# Altium footprint library Back.PcbLib: 17 footprints (part 1 of 2)
Each footprint in its own frame and in the unit in brackets; x right, y up, seen from the top. Pads: shape width x height; smd on the part's side, far side on the other; paste and mask are expansions set on the pad; w line width, h text height; cw(c..) or ccw(c..) is an arc to the next point about the centre after c.
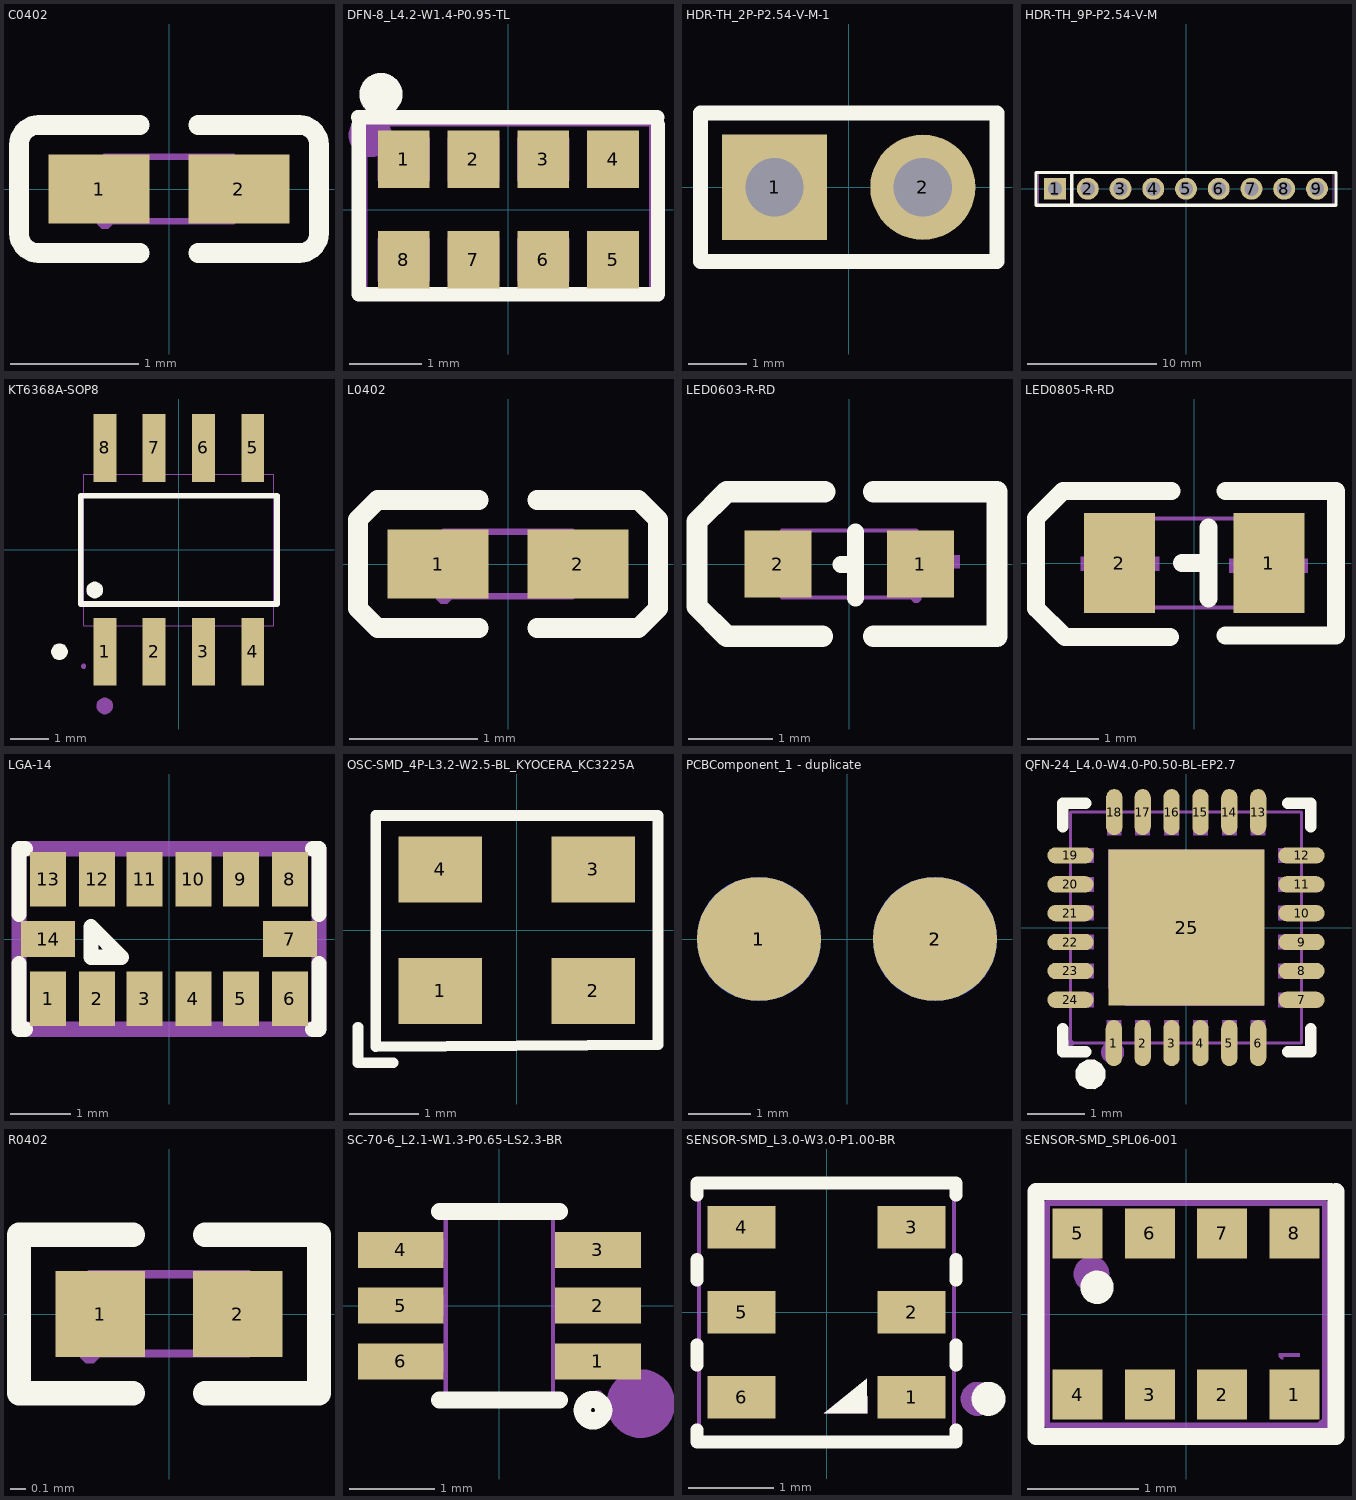
[diagram p0: the footprints below, top view; thin cyan lines are the x and y axes]

## C0402 [mm]
pads (2):
  rect 0.79x0.54 smd paste-100 mask+0.051: 1(-0.545,0) 2(0.545,0)
Top Overlay:
  lines w0.152: -0.226,-0.499 -1.016,-0.499 cw(c-1.016,-0.346) -1.169,-0.346 -1.169,0.346 cw(c-1.016,0.346) -1.016,0.499 -0.226,0.499 ; 0.226,-0.499 1.016,-0.499 ccw(c1.016,-0.346) 1.169,-0.346 1.169,0.346 ccw(c1.016,0.346) 1.016,0.499 0.226,0.499
Top Paste:
  region: -0.18,0.225 -0.18,-0.225 -0.25,-0.275 -0.73,-0.275 -0.78,-0.225 -0.78,0.225 -0.73,0.275 -0.25,0.275
  region: 0.78,0.225 0.78,-0.225 0.73,-0.275 0.25,-0.275 0.18,-0.225 0.18,0.225 0.25,0.275 0.73,0.275
Mechanical 15:
  region: -0.5,-0.31 -0.475,-0.31 -0.44,-0.275 -0.44,-0.225 -0.475,-0.19 -0.5,-0.19 -0.525,-0.19 -0.56,-0.225 -0.56,-0.275 -0.525,-0.31 -0.5,-0.31
  region: -0.5,-0.25 -0.5,0.25 -0.25,0.25 -0.25,-0.25
  region: 0.5,-0.25 0.5,0.25 0.25,0.25 0.25,-0.25
  lines w0.051: -0.5,-0.25 -0.5,0.25 0.5,0.25 0.5,-0.25 -0.5,-0.25

## DFN-8_L4.2-W1.4-P0.95-TL [mm]
pads (8):
  rect 0.72x0.8 smd paste+0 mask+0.051: 1(-1.455,0.7) 2(-0.485,0.7) 3(0.485,0.7) 4(1.455,0.7) 5(1.455,-0.7) 6(0.485,-0.7) 7(-0.485,-0.7) 8(-1.455,-0.7)
Top Overlay:
  lines w0.2: -2.09,1.28 2.07,1.28 ; -2.08,1.18 -2.08,-1.18 2.08,-1.18 2.08,1.18
  lines w0.3: -1.773,1.45 cw(c-1.771,1.6) -1.77,1.45
Mechanical 6:
  circle w0.3: c-1.92,1.03 r0.15
Mechanical 15:
  region: -1.815,1 -1.095,1 -1.095,0.4 -1.815,0.4
  region: -1.815,-0.4 -1.095,-0.4 -1.095,-1 -1.815,-1
  region: -0.845,-0.4 -0.125,-0.4 -0.125,-1 -0.845,-1
  region: 0.125,-0.4 0.845,-0.4 0.845,-1 0.125,-1
  region: -0.845,1 -0.125,1 -0.125,0.4 -0.845,0.4
  region: 0.125,1 0.845,1 0.845,0.4 0.125,0.4
  region: 1.095,1 1.815,1 1.815,0.4 1.095,0.4
  region: 1.095,-0.4 1.815,-0.4 1.815,-1 1.095,-1
  region: -1.92,1.18 -1.92,1.205 -1.955,1.24 -2.005,1.24 -2.04,1.205 -2.04,1.18 -2.04,1.155 -2.005,1.12 -1.955,1.12 -1.92,1.155 -1.92,1.18
  lines w0.051: -1.98,-1.18 -1.98,1.18 1.98,1.18 1.98,-1.18 -1.98,-1.18

## HDR-TH_2P-P2.54-V-M-1 [mm]
pads (2):
  rect 1.8x1.8 hole 1 paste+0 mask+0.051: 1(-1.27,0)
  round 1.8 hole 1 paste+0 mask+0.051: 2(1.27,0)
Top Overlay:
  lines w0.254: -2.54,-1.27 -2.54,1.27 2.54,1.27 2.54,-1.27 -2.54,-1.27
Mechanical 15:
  region: 0.95,0.32 1.59,0.32 1.59,-0.32 0.95,-0.32
  region: -1.59,0.32 -0.95,0.32 -0.95,-0.32 -1.59,-0.32
  region: -2.54,-1.33 -2.516,-1.329 -2.483,-1.294 -2.483,-1.246 -2.516,-1.211 -2.54,-1.21 -2.564,-1.211 -2.597,-1.246 -2.597,-1.294 -2.564,-1.329 -2.54,-1.33
  lines w0.051: -2.54,-1.27 2.54,-1.27 2.54,1.27 -2.54,1.27 -2.54,-1.27

## HDR-TH_9P-P2.54-V-M [mm]
pads (9):
  rect 1.7x1.7 hole 1.1 paste+0 mask+0.051: 1(-10.16,0)
  round 1.7 hole 1.1 paste+0 mask+0.051: 2(-7.62,0) 3(-5.08,0) 4(-2.54,0) 5(0,0) 6(2.54,0) 7(5.08,0) 8(7.62,0) 9(10.16,0)
Top Overlay:
  lines w0.254: -8.866,-1.27 -8.866,1.27 ; -11.64,-1.27 -11.64,1.27 11.64,1.27 11.64,-1.27 -11.64,-1.27
Mechanical 15:
  region: -10.48,0.32 -9.84,0.32 -9.84,-0.32 -10.48,-0.32
  region: -7.94,0.32 -7.3,0.32 -7.3,-0.32 -7.94,-0.32
  region: -5.4,0.32 -4.76,0.32 -4.76,-0.32 -5.4,-0.32
  region: -2.86,0.32 -2.22,0.32 -2.22,-0.32 -2.86,-0.32
  region: -0.32,0.32 0.32,0.32 0.32,-0.32 -0.32,-0.32
  region: 2.22,0.32 2.86,0.32 2.86,-0.32 2.22,-0.32
  region: 4.76,0.32 5.4,0.32 5.4,-0.32 4.76,-0.32
  region: 7.3,0.32 7.94,0.32 7.94,-0.32 7.3,-0.32
  region: 9.84,0.32 10.48,0.32 10.48,-0.32 9.84,-0.32
  region: -11.37,-1.25 -11.371,-1.226 -11.406,-1.193 -11.454,-1.193 -11.489,-1.226 -11.49,-1.25 -11.489,-1.274 -11.454,-1.307 -11.406,-1.307 -11.371,-1.274 -11.37,-1.25
  lines w0.051: -11.43,-1.25 11.43,-1.25 11.43,1.25 -11.43,1.25 -11.43,-1.25

## KT6368A-SOP8 [mm]
pads (8):
  rect 0.589x1.75 smd: 1(-1.905,-2.625) 2(-0.635,-2.625) 3(0.635,-2.625) 4(1.905,-2.625) 5(1.905,2.625) 6(0.635,2.625) 7(-0.635,2.625) 8(-1.905,2.625)
Top Overlay:
  region: -3.076,-2.417 -3.117,-2.417 -3.194,-2.448 -3.252,-2.507 -3.284,-2.584 -3.284,-2.667 -3.253,-2.743 -3.194,-2.802 -3.117,-2.834 -3.076,-2.834 -3.034,-2.834 -2.958,-2.802 -2.899,-2.743 -2.867,-2.667 -2.867,-2.584 -2.899,-2.507 -2.957,-2.448 -3.034,-2.417 -3.076,-2.417
  region: -2.165,-0.825 -2.206,-0.825 -2.282,-0.857 -2.34,-0.916 -2.371,-0.992 -2.371,-1.075 -2.34,-1.151 -2.282,-1.209 -2.206,-1.242 -2.165,-1.242 -2.124,-1.242 -2.048,-1.209 -1.99,-1.151 -1.959,-1.075 -1.959,-0.992 -1.99,-0.916 -2.048,-0.858 -2.124,-0.825 -2.165,-0.825
  lines w0.152: -2.526,-1.394 2.526,-1.394 2.526,1.394 -2.526,1.394 -2.526,-1.394
Mechanical 6:
  region: -1.905,-3.812 -1.946,-3.812 -2.023,-3.844 -2.082,-3.903 -2.114,-3.979 -2.114,-4.062 -2.082,-4.139 -2.023,-4.198 -1.946,-4.229 -1.905,-4.229 -1.864,-4.229 -1.787,-4.198 -1.728,-4.139 -1.696,-4.062 -1.696,-3.979 -1.728,-3.903 -1.787,-3.844 -1.864,-3.812 -1.905,-3.812
Mechanical 15:
  region: -1.695,2.175 -1.695,1.94 -2.115,1.94 -2.115,2.175
  region: -1.695,3 -1.695,2.165 -2.115,2.165 -2.115,3
  region: -0.425,2.175 -0.425,1.94 -0.845,1.94 -0.845,2.175
  region: -0.425,3 -0.425,2.165 -0.845,2.165 -0.845,3
  region: 0.845,2.175 0.845,1.94 0.425,1.94 0.425,2.175
  region: 0.845,3 0.845,2.165 0.425,2.165 0.425,3
  region: 2.115,2.175 2.115,1.94 1.695,1.94 1.695,2.175
  region: 2.115,3 2.115,2.165 1.695,2.165 1.695,3
  region: 2.115,-2.175 2.115,-1.94 1.695,-1.94 1.695,-2.175
  region: 2.115,-3 2.115,-2.165 1.695,-2.165 1.695,-3
  region: 0.845,-2.175 0.845,-1.94 0.425,-1.94 0.425,-2.175
  region: 0.845,-3 0.845,-2.165 0.425,-2.165 0.425,-3
  region: -0.425,-2.175 -0.425,-1.94 -0.845,-1.94 -0.845,-2.175
  region: -0.425,-3 -0.425,-2.165 -0.845,-2.165 -0.845,-3
  region: -1.695,-2.175 -1.695,-1.94 -2.115,-1.94 -2.115,-2.175
  region: -1.695,-3 -1.695,-2.165 -2.115,-2.165 -2.115,-3
  region: -2.45,-2.94 -2.474,-2.94 -2.508,-2.975 -2.508,-3.024 -2.474,-3.059 -2.45,-3.06 -2.426,-3.059 -2.392,-3.024 -2.392,-2.975 -2.426,-2.94 -2.45,-2.94
  lines w0.025: -2.45,-1.95 2.45,-1.95 2.45,1.95 -2.45,1.95 -2.45,-1.95

## L0402 [mm]
pads (2):
  rect 0.79x0.54 smd paste-100 mask+0.051: 1(-0.545,0) 2(0.545,0)
Top Overlay:
  lines w0.152: -0.226,-0.499 -1.016,-0.499 -1.169,-0.346 -1.169,0.346 -1.016,0.499 -0.226,0.499 ; 0.226,-0.499 1.016,-0.499 1.169,-0.346 1.169,0.346 1.016,0.499 0.226,0.499
Top Paste:
  region: -0.135,-0.086 -0.135,0.086 -0.404,0.27 -0.9,0.27 -0.94,0.23 -0.94,-0.23 -0.9,-0.27 -0.404,-0.27
  region: 0.135,-0.086 0.135,0.086 0.404,0.27 0.9,0.27 0.94,0.23 0.94,-0.23 0.9,-0.27 0.404,-0.27
Mechanical 15:
  region: 0.5,-0.25 0.5,0.25 0.25,0.25 0.25,-0.25
  region: -0.5,-0.25 -0.5,0.25 -0.25,0.25 -0.25,-0.25
  region: -0.5,-0.31 -0.475,-0.31 -0.44,-0.275 -0.44,-0.225 -0.475,-0.19 -0.5,-0.19 -0.525,-0.19 -0.56,-0.225 -0.56,-0.275 -0.525,-0.31 -0.5,-0.31
  lines w0.051: -0.5,-0.25 0.5,-0.25 0.5,0.25 -0.5,0.25 -0.5,-0.25

## LED0603-R-RD [mm]
pads (2):
  rect 0.8x0.8 smd paste+0 mask+0.051: 1(0.851,0) 2(-0.851,0)
Top Overlay:
  lines w0.203: -0.099,-0.008 0.076,-0.008 ; 0.076,-0.406 0.076,0.381
  lines w0.254: -0.318,-0.864 -1.46,-0.864 -1.816,-0.508 -1.816,0.508 -1.46,0.864 -0.292,0.864 ; 0.292,-0.864 1.765,-0.864 1.765,0.864 0.292,0.864
Mechanical 6:
  region: -1.193,0.05 -0.533,0.05 -0.533,-0.103 -1.193,-0.103
  region: 0.936,-0.275 0.936,0.385 1.088,0.385 1.088,-0.275
  region: 0.66,0.102 1.321,0.102 1.321,-0.051 0.66,-0.051
Mechanical 15:
  region: -0.8,-0.4 -0.8,0.4 -0.5,0.4 -0.5,-0.4
  region: 0.8,0.4 0.8,-0.4 0.5,-0.4 0.5,0.4
  region: 0.8,-0.46 0.825,-0.46 0.86,-0.425 0.86,-0.375 0.825,-0.34 0.8,-0.34 0.775,-0.34 0.74,-0.375 0.74,-0.425 0.775,-0.46 0.8,-0.46
  lines w0.051: -0.8,-0.4 -0.8,0.4 0.8,0.4 0.8,-0.4 -0.8,-0.4

## LED0805-R-RD [mm]
pads (2):
  rect 1x1.4 smd paste+0 mask+0.051: 1(1.05,0) 2(-1.05,0)
Top Overlay:
  lines w0.254: -0.344,-1.043 -1.817,-1.043 -2.224,-0.636 -2.224,0.634 -1.843,1.015 -0.319,1.015 ; -0.169,0 0.1,0 ; 0.2,-0.5 0.2,0.5 ; 0.443,-1.017 1.993,-1.017 1.993,1.015 0.443,1.015
Mechanical 6:
  region: -0.494,-0.109 -1.594,-0.109 -1.594,0.091 -0.494,0.091
  region: 0.494,0.06 1.594,0.06 1.594,-0.14 0.494,-0.14
  region: 0.941,-0.556 0.941,0.544 1.141,0.544 1.141,-0.556
Mechanical 15:
  region: -0.6,-0.625 -1,-0.625 -1,0.625 -0.6,0.625
  region: 1,-0.625 0.6,-0.625 0.6,0.625 1,0.625
  region: 1,0.685 0.976,0.685 0.941,0.65 0.941,0.601 0.976,0.566 1,0.565 1.024,0.566 1.059,0.601 1.059,0.65 1.024,0.685 1,0.685
  lines w0.051: -1,-0.625 1,-0.625 1,0.625 -1,0.625 -1,-0.625

## LGA-14 [mil]
pads (14):
  rect 23.6x35.4 smd paste+0 mask+2: 1(-79,-39) 2(-47,-39) 3(-16,-39) 4(16,-39) 5(47,-39) 6(79,-39) 8(79,39) 9(47,39) 10(16,39) 11(-16,39) 12(-47,39) 13(-79,39)
  rect 35.4x23.6 smd paste+0 mask+2: 7(79,0) 14(-79,0)
Top Overlay:
  lines w10: -98,-16 -98,-59 -94,-59 ; -98,16 -98,59 -94,59 ; 94,-59 98,-59 98,-16 ; 94,59 98,59 98,16 ; -51,-12 -31,-12 -51,8 -51,-12
Mechanical 6:
  lines w10: -98,-59 98,-59 98,59 -98,59 -98,-59

## OSC-SMD_4P-L3.2-W2.5-BL_KYOCERA_KC3225A [mm]
pads (4):
  rect 1.2x0.95 smd paste+0 mask+0.051: 1(-1.1,-0.875) 2(1.1,-0.875) 3(1.1,0.875) 4(-1.1,0.875)
Top Overlay:
  lines w0.152: -2.286,-1.397 -2.286,-1.905 -1.778,-1.905 ; -2.029,-1.679 2.032,-1.651 2.032,0 2.032,1.651 -2.029,1.651 -2.029,-1.679

## PCBComponent_1 - duplicate [mm]
pads (4):
  round 2 smd far side: 1(-1.42,0) 2(1.42,0)
  round 2 smd: 1(-1.42,0) 2(1.42,0)

## QFN-24_L4.0-W4.0-P0.50-BL-EP2.7 [mm]
pads (25):
  oval 0.28x0.8 smd paste-100 mask+0.05: 1(-1.25,-2) 2(-0.75,-2) 3(-0.25,-2) 4(0.25,-2) 5(0.75,-2) 6(1.25,-2) 13(1.25,2) 14(0.75,2) 15(0.25,2) 16(-0.25,2) 17(-0.75,2) 18(-1.242,2)
  oval 0.8x0.28 smd paste-100 mask+0.05: 7(2,-1.25) 8(2,-0.75) 9(2,-0.25) 10(2,0.25) 11(2,0.75) 12(2,1.25) 19(-2,1.25) 20(-2,0.75) 21(-2,0.25) 22(-2,-0.25) 23(-2,-0.75) 24(-2,-1.25)
  rect 2.7x2.7 smd paste-100 mask+0.05: 25(0.012,0)
Top Overlay:
  region: -1.397,-2.539 -1.397,-2.471 -1.466,-2.353 -1.584,-2.286 -1.72,-2.286 -1.837,-2.354 -1.905,-2.472 -1.905,-2.608 -1.837,-2.726 -1.72,-2.794 -1.584,-2.794 -1.466,-2.727 -1.397,-2.609 -1.397,-2.541
  lines w0.2: -2.138,-1.75 -2.138,-2.15 -1.738,-2.15 ; -2.138,1.75 -2.138,2.15 -1.738,2.15 ; 1.763,-2.15 2.163,-2.15 2.163,-1.75 ; 1.763,2.15 2.163,2.15 2.163,1.75
Top Paste:
  drawing of 25 lines, arcs and shapes, not listed
Mechanical 6:
  circle w0.2: c-1.27,-2.159 r0.1
Mechanical 15:
  region: -1.375,-2 -1.375,-1.6 -1.125,-1.6 -1.125,-2
  region: -0.875,-2 -0.875,-1.6 -0.625,-1.6 -0.625,-2
  region: -0.375,-2 -0.375,-1.6 -0.125,-1.6 -0.125,-2
  region: 0.125,-2 0.125,-1.6 0.375,-1.6 0.375,-2
  region: 0.625,-2 0.625,-1.6 0.875,-1.6 0.875,-2
  region: 1.125,-2 1.125,-1.6 1.375,-1.6 1.375,-2
  region: 1.6,-1.375 1.6,-1.125 2,-1.125 2,-1.375
  region: 1.6,-0.875 1.6,-0.625 2,-0.625 2,-0.875
  region: 1.6,-0.375 1.6,-0.125 2,-0.125 2,-0.375
  region: 1.6,0.125 1.6,0.375 2,0.375 2,0.125
  region: 1.6,0.625 1.6,0.875 2,0.875 2,0.625
  region: 1.6,1.125 1.6,1.375 2,1.375 2,1.125
  region: 1.125,1.6 1.125,2 1.375,2 1.375,1.6
  region: 0.625,1.6 0.625,2 0.875,2 0.875,1.6
  region: 0.125,1.6 0.125,2 0.375,2 0.375,1.6
  region: -0.375,1.6 -0.375,2 -0.125,2 -0.125,1.6
  region: -0.875,1.6 -0.875,2 -0.625,2 -0.625,1.6
  region: -1.367,1.6 -1.367,2 -1.117,2 -1.117,1.6
  region: -2,1.125 -2,1.375 -1.6,1.375 -1.6,1.125
  region: -2,0.625 -2,0.875 -1.6,0.875 -1.6,0.625
  region: -2,0.125 -2,0.375 -1.6,0.375 -1.6,0.125
  region: -2,-0.375 -2,-0.125 -1.6,-0.125 -1.6,-0.375
  region: -2,-0.875 -2,-0.625 -1.6,-0.625 -1.6,-0.875
  region: -2,-1.375 -2,-1.125 -1.6,-1.125 -1.6,-1.375
  region: -1.35,-1.05 -1.35,1.35 1.35,1.35 1.35,-1.35 -1.05,-1.35
  region: -1.94,-2 -1.941,-1.976 -1.976,-1.942 -2.024,-1.942 -2.059,-1.976 -2.06,-2 -2.059,-2.024 -2.024,-2.058 -1.976,-2.058 -1.941,-2.024 -1.94,-2
  lines w0.051: -2,-2 2,-2 2,2 -2,2 -2,-2

## R0402 [mm]
pads (2):
  rect 0.566x0.54 smd paste-100 mask+0.051: 1(-0.433,0) 2(0.433,0)
Top Overlay:
  lines w0.152: -0.226,-0.499 -0.944,-0.499 -0.944,0.499 -0.226,0.499 ; 0.226,-0.499 0.944,-0.499 0.944,0.499 0.226,0.499
Top Paste:
  region: -0.135,-0.23 -0.135,0.23 -0.175,0.27 -0.676,0.27 -0.716,0.23 -0.716,-0.23 -0.676,-0.27 -0.175,-0.27
  region: 0.135,-0.23 0.135,0.23 0.175,0.27 0.676,0.27 0.716,0.23 0.716,-0.23 0.676,-0.27 0.175,-0.27
Mechanical 15:
  region: -0.249,0.25 -0.249,-0.25 -0.499,-0.25 -0.499,0.25
  region: 0.251,-0.25 0.251,0.25 0.501,0.25 0.501,-0.25
  region: -0.56,-0.25 -0.56,-0.275 -0.525,-0.31 -0.475,-0.31 -0.44,-0.275 -0.44,-0.25 -0.44,-0.225 -0.475,-0.19 -0.525,-0.19 -0.56,-0.225 -0.56,-0.25
  lines w0.051: -0.5,-0.25 0.5,-0.25 0.5,0.25 -0.5,0.25 -0.5,-0.25

## SC-70-6_L2.1-W1.3-P0.65-LS2.3-BR [mm]
pads (6):
  rect 1x0.42 smd paste+0 mask+0.05: 1(1.15,-0.65) 2(1.15,0) 3(1.15,0.65) 4(-1.15,0.65) 5(-1.15,0) 6(-1.15,-0.65)
Top Overlay:
  lines w0.2: -0.7,-1.1 0.7,-1.1 ; -0.7,1.1 0.7,1.1 ; 1.091,-1.094 ccw(c1.092,-1.219) 1.093,-1.094
Mechanical 6:
  circle w0.4: c1.651,-1.143 r0.2
Mechanical 15:
  region: 0.79,0.525 0.79,0.775 1.15,0.775 1.15,0.525
  region: 0.615,0.525 0.615,0.775 0.8,0.775 0.8,0.525
  region: 0.79,-0.125 0.79,0.125 1.15,0.125 1.15,-0.125
  region: 0.615,-0.125 0.615,0.125 0.8,0.125 0.8,-0.125
  region: 0.79,-0.775 0.79,-0.525 1.15,-0.525 1.15,-0.775
  region: 0.615,-0.775 0.615,-0.525 0.8,-0.525 0.8,-0.775
  region: -1.15,-0.775 -1.15,-0.525 -0.79,-0.525 -0.79,-0.775
  region: -0.8,-0.775 -0.8,-0.525 -0.615,-0.525 -0.615,-0.775
  region: -1.15,-0.125 -1.15,0.125 -0.79,0.125 -0.79,-0.125
  region: -0.8,-0.125 -0.8,0.125 -0.615,0.125 -0.615,-0.125
  region: -1.15,0.525 -1.15,0.775 -0.79,0.775 -0.79,0.525
  region: -0.8,0.525 -0.8,0.775 -0.615,0.775 -0.615,0.525
  region: 1.21,-1.05 1.21,-1.025 1.175,-0.99 1.125,-0.99 1.09,-1.025 1.09,-1.05 1.09,-1.075 1.125,-1.11 1.175,-1.11 1.21,-1.075 1.21,-1.05
  lines w0.051: -0.625,-1.05 0.625,-1.05 0.625,1.05 -0.625,1.05 -0.625,-1.05

## SENSOR-SMD_L3.0-W3.0-P1.00-BR [mm]
pads (6):
  rect 0.8x0.5 smd paste+0 mask+0.05: 1(1,-1) 2(1,0) 3(1,1) 4(-1,1) 5(-1,0) 6(-1,-1)
Top Overlay:
  circle w0.2: c1.905,-1.016 r0.1
  region: -0.028,-1.186 0.481,-1.187 0.476,-0.78
  lines w0.15: -1.524,-1.378 -1.524,-1.524 1.524,-1.524 1.524,-1.378 ; -1.524,-0.622 -1.524,-0.378 ; -1.524,0.378 -1.524,0.622 ; -1.524,1.378 -1.524,1.524 1.524,1.524 1.524,1.378 ; 1.524,-0.622 1.524,-0.378 ; 1.524,0.378 1.524,0.622
Mechanical 6:
  circle w0.2: c1.778,-1.016 r0.1
  region: -0.032,-1.186 0.477,-1.187 0.472,-0.781
Mechanical 15:
  region: 1.275,0.8 0.725,0.8 0.725,1.2 1.275,1.2
  region: 1.275,-0.2 0.725,-0.2 0.725,0.2 1.275,0.2
  region: 1.275,-1.2 0.725,-1.2 0.725,-0.8 1.275,-0.8
  region: -0.725,-1.2 -1.275,-1.2 -1.275,-0.8 -0.725,-0.8
  region: -0.725,-0.2 -1.275,-0.2 -1.275,0.2 -0.725,0.2
  region: -0.725,0.8 -1.275,0.8 -1.275,1.2 -0.725,1.2
  region: 1.44,-1.5 1.44,-1.525 1.475,-1.56 1.525,-1.56 1.56,-1.525 1.56,-1.5 1.56,-1.475 1.525,-1.44 1.475,-1.44 1.44,-1.475 1.44,-1.5
  lines w0.051: -1.5,-1.5 1.5,-1.5 1.5,1.5 -1.5,1.5 -1.5,-1.5

## SENSOR-SMD_SPL06-001 [mm]
pads (8):
  rect 0.45x0.45 smd paste+0 mask+0.051: 1(0.975,-0.725) 2(0.325,-0.725) 3(-0.325,-0.725) 4(-0.975,-0.725) 5(-0.975,0.725) 6(-0.325,0.725) 7(0.325,0.725) 8(0.975,0.725)
Top Overlay:
  circle w0.15: c-0.8,0.24 r0.075
  lines w0.152: 1.3,1.1 -1.349,1.1 -1.349,-1.1 1.349,-1.1 1.349,1.1
Mechanical 6:
  circle w0.16: c-0.85,0.36 r0.08
  region: 0.875,-0.385 0.875,-0.405 0.855,-0.405 0.835,-0.385 0.835,-0.355 0.845,-0.355 1.025,-0.355 1.025,-0.385
  region: -1.245,0.995 1.245,0.995 1.245,-0.995 1.225,-0.995 1.225,0.975 -1.245,0.975
  region: 1.245,-1.005 -1.245,-1.005 -1.245,0.985 -1.225,0.985 -1.225,-0.985 1.245,-0.985
Mechanical 15:
  region: 0.8,-0.55 1.15,-0.55 1.15,-0.9 0.8,-0.9
  region: 0.15,-0.55 0.5,-0.55 0.5,-0.9 0.15,-0.9
  region: -0.5,-0.55 -0.15,-0.55 -0.15,-0.9 -0.5,-0.9
  region: -1.15,-0.55 -0.8,-0.55 -0.8,-0.9 -1.15,-0.9
  region: -1.15,0.9 -0.8,0.9 -0.8,0.55 -1.15,0.55
  region: -0.5,0.9 -0.15,0.9 -0.15,0.55 -0.5,0.55
  region: 0.15,0.9 0.5,0.9 0.5,0.55 0.15,0.55
  region: 0.8,0.9 1.15,0.9 1.15,0.55 0.8,0.55
  region: 1.25,-1.06 1.275,-1.06 1.31,-1.025 1.31,-0.975 1.275,-0.94 1.25,-0.94 1.225,-0.94 1.19,-0.975 1.19,-1.025 1.225,-1.06 1.25,-1.06
  lines w0.051: -1.25,-1 1.25,-1 1.25,1 -1.25,1 -1.25,-1